# Altium schematic symbol library H2184-05.SchLib: 1 symbol
Pins are listed as number, name and electrical type; pins without a type are passive.

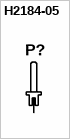
[diagram p0: symbol H2184-05]

## H2184-05
designator P?
PC Pin Terminal Connector Through Hole Gold 0.070" (1.78mm) Dia
pins: 1